# EAGLE library part PSS254_20 (library PS254_Reichelt)
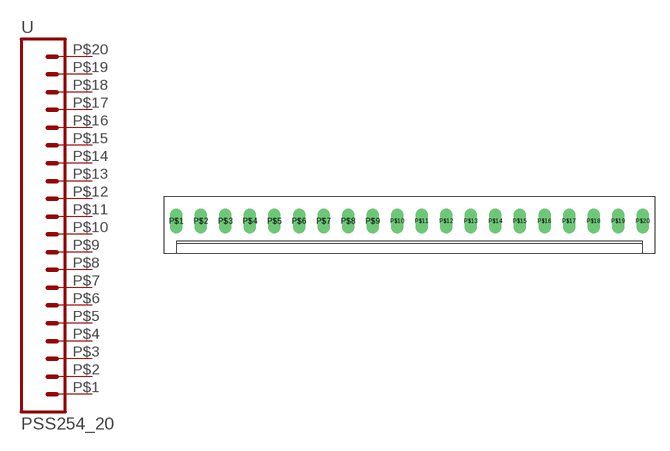
[diagram p1: symbol with the pads of 20G; footprint 20G]

Designator prefix -

## PSS254_20GERADE  [20G]
P$1  1  pas
P$2  2  pas
P$3  3  pas
P$4  4  pas
P$5  5  pas
P$6  6  pas
P$7  7  pas
P$8  8  pas
P$9  9  pas
P$10  10  pas
P$11  11  pas
P$12  12  pas
P$13  13  pas
P$14  14  pas
P$15  15  pas
P$16  16  pas
P$17  17  pas
P$18  18  pas
P$19  19  pas
P$20  20  pas

## Footprint 20G (pad centres in mm)
drill 0.8 long: P$1 1.27,3.31; P$2 3.81,3.31; P$3 6.35,3.31; P$4 8.89,3.31; P$5 11.43,3.31; P$6 13.97,3.31; P$7 16.51,3.31; P$8 19.05,3.31; P$9 21.59,3.31; P$10 24.13,3.31; P$11 26.67,3.31; P$12 29.21,3.31; P$13 31.75,3.31; P$14 34.29,3.31; P$15 36.83,3.31; P$16 39.37,3.31; P$17 41.91,3.31; P$18 44.45,3.31; P$19 46.99,3.31; P$20 49.53,3.31